# EAGLE library part LEITUNGSSCHUTZSCHALTER_3-POL (library e-sicherungen)
Leitungsschutzschalter, 3-pol.
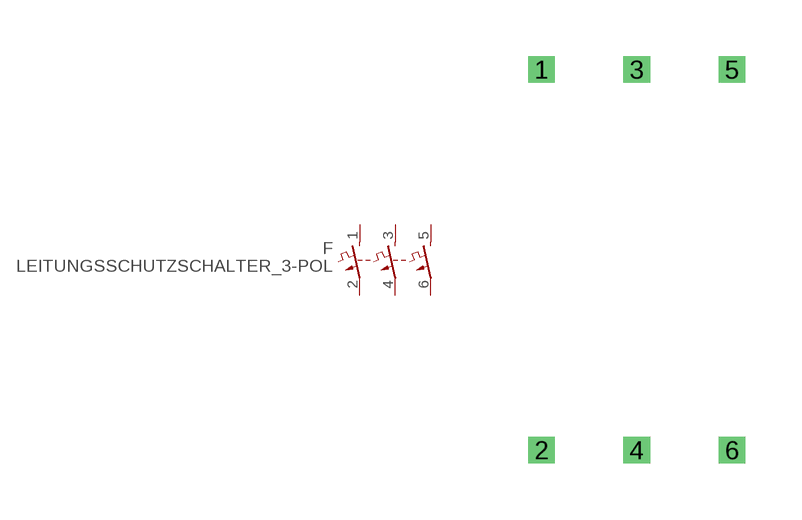
[diagram p0: symbol with the pads of LEITUNGSSCHUTZSCHALTER_3-POL; footprint LEITUNGSSCHUTZSCHALTER_3-POL]

Designator prefix F

## LEITUNGSSCHUTZSCHALTER_3-POL  [LEITUNGSSCHUTZSCHALTER_3-POL]
1  1  pas
2  2  pas
3  3  pas
4  4  pas
5  5  pas
6  6  pas

## Footprint LEITUNGSSCHUTZSCHALTER_3-POL (pad centres in mm)
Dummy
drill 0.2 pad 0.6 square: 1 0,5.08; 2 0,-5.08; 3 2.54,5.08; 4 2.54,-5.08; 5 5.08,5.08; 6 5.08,-5.08